# Altium footprint library Diode.PcbLib: 46 footprints (part 1 of 3)
Each footprint in its own frame and in the unit in brackets; x right, y up, seen from the top. Pads: shape width x height; smd on the part's side, far side on the other; paste and mask are expansions set on the pad; w line width, h text height; cw(c..) or ccw(c..) is an arc to the next point about the centre after c.
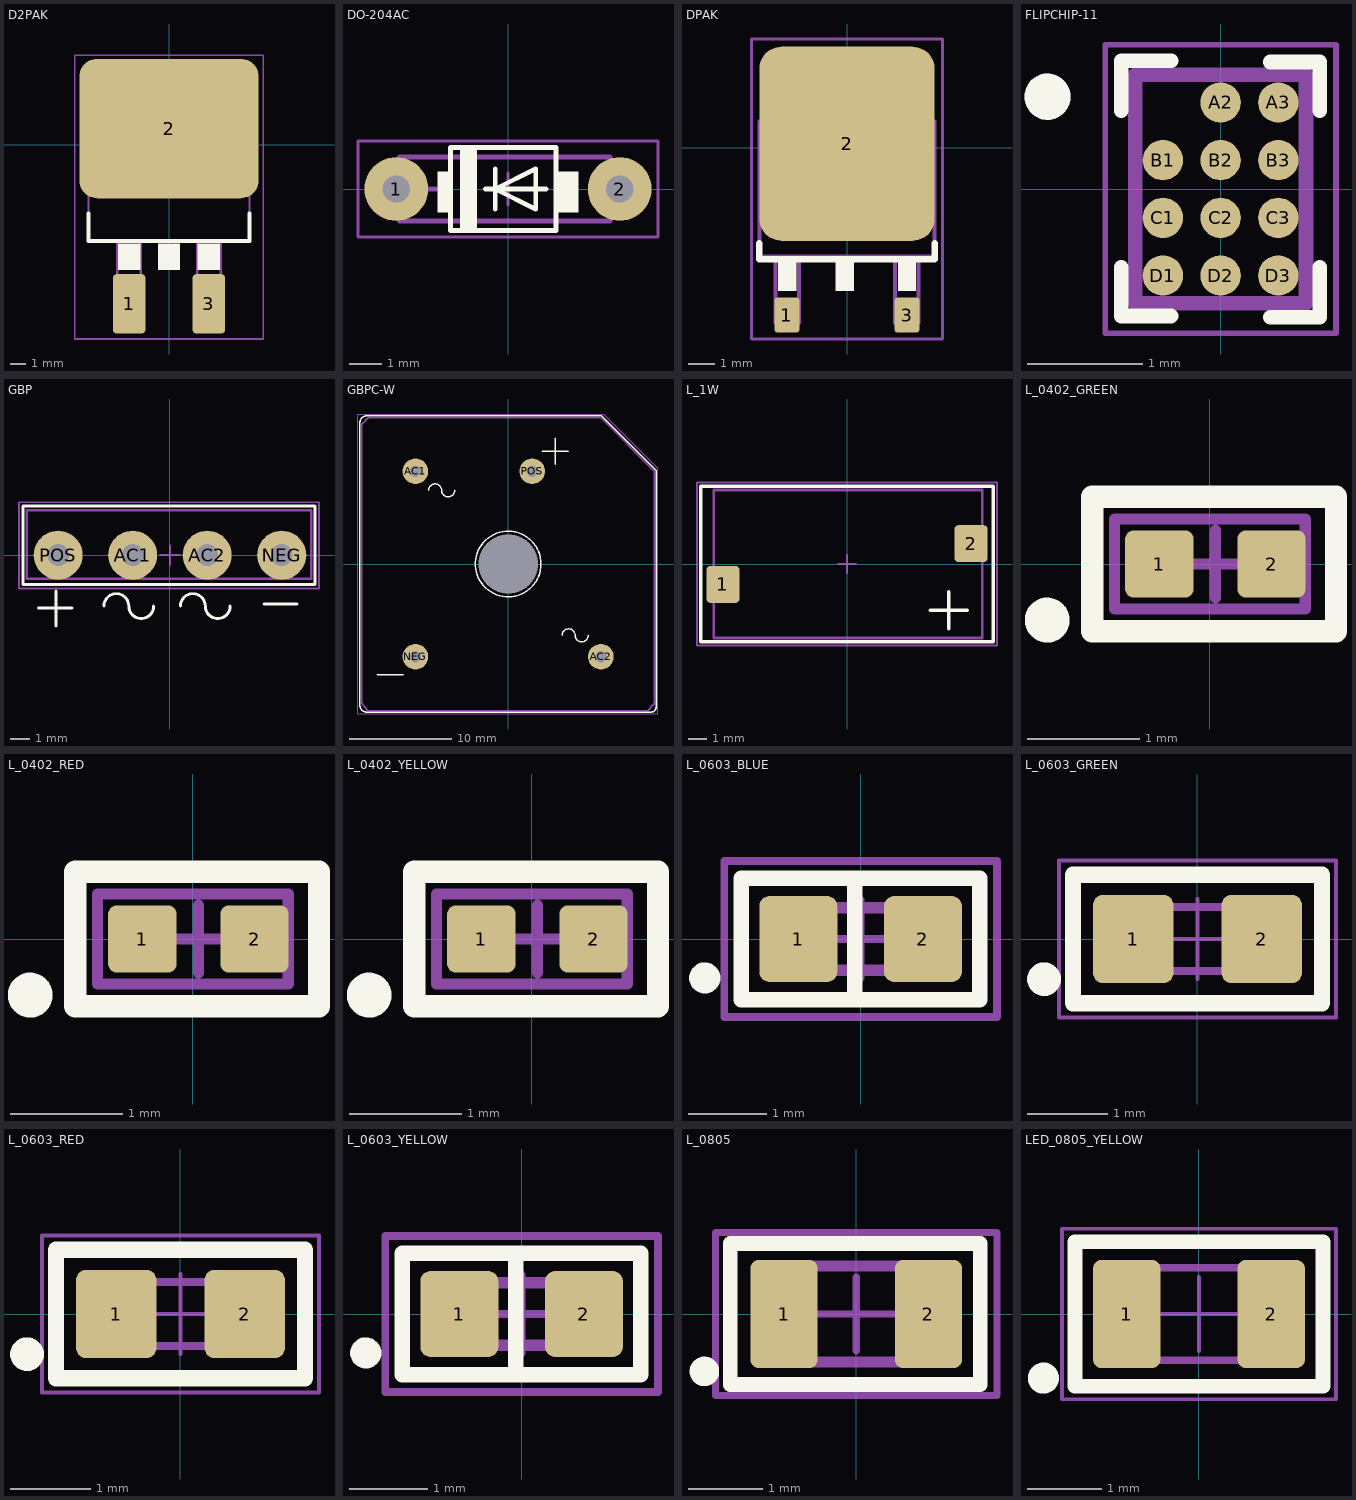
[diagram p0: the footprints below, top view; thin cyan lines are the x and y axes]

## D2PAK [mm]
pads (3):
  rrect25% 2.08x3.81 smd: 1(-2.54,-10.16) 3(2.54,-10.16)
  rrect25% 11.43x8.89 smd: 2(0,1.02)
Top Overlay:
  rectangle: -0.711,-8 0.711,-6.312
  rectangle: 1.829,-8 3.251,-6.312
  rectangle: -3.251,-8 -1.829,-6.312
  lines w0.254: -5.131,-4.381 -5.131,-6.159 5.131,-6.159 5.131,-4.381
Mechanical 7:
  lines w0.15: -5.131,-6.159 -5.131,3.175 ; -5.1,-6.159 5.1,-6.159 ; -3.3,-6.159 -3.3,-11.2 -1.8,-11.2 -1.8,-6.159 ; 1.8,-6.159 1.8,-11.2 3.3,-11.2 3.3,-6.159 ; 5.131,-6.159 5.131,3.175 ; -5.131,3.175 -5.131,3.429 -3.378,4.547 3.124,4.547 5.131,3.175 ; -5.131,3.175 5.131,3.175
Mechanical 9:
  text ".Designator" at -5,6.5 h3
Mechanical 10:
  text ".Comment" at -3.099,-14.1 h2
Mechanical 15:
  lines w0.1: -0.75,0 0.75,0 ; 0,-0.75 0,0.75 ; -6,-12.4 -6,5.7 6,5.7 6,-12.4 -6,-12.4
3D body "User Library-DPAK.step": height 5.03, standoff 0.02, extent -5.16,-11.25 5,4.014

## DO-204AC [mm]
pads (2):
  round 2 hole 0.85: 1(-3.5,0) 2(3.5,0)
Top Overlay:
  region: 1.5,0.535 2.2,0.535 2.2,-0.735 1.5,-0.735
  region: -1.5,1.3 -0.986,1.3 -0.986,-1.3 -1.5,-1.3
  region: -1.8,0.535 -2.2,0.535 -2.2,-0.735 -1.8,-0.735
  lines w0.152: -0.7,0 -0.4,0 ; -0.4,-0.635 -0.4,0 ; -0.4,0.635 -0.4,0 ; 1.2,0 -0.4,0 ; -0.4,0 0.87,-0.635 0.87,0.635 -0.4,0 ; -1.8,-1.3 1.5,-1.3 1.5,1.3 -1.8,1.3 -1.8,-1.3
Mechanical 9:
  text ".Designator" at -5.9,2.3 h3.5
Mechanical 10:
  text ".Comment" at -3.1,-2.9 h2
Mechanical 11:
  lines w0.15: -4.25,0 -2.25,0 ; -3.5,0 -3.25,0 ; -3.25,-1 -3.25,1 ; 3.2,0 4.3,0 ; -3.4,-1 3.2,-1 3.2,1 -3.4,1 -3.4,-1
Mechanical 15:
  lines w0.1: -0.5,0 0.5,0 ; 0,-0.5 0,0.5 ; -4.7,-1.5 -4.7,1.5 4.7,1.5 4.7,-1.5 -4.7,-1.5
3D body "User Library-diode6mm.STEP": height 4.86, standoff -0.14, extent -3.65,-1 3.65,1

## DPAK [mil]
pads (3):
  rrect25% 37x52 smd: 1(-89,-248) 3(89,-248)
  rrect25% 260x288 smd: 2(0,6)
Top Overlay:
  rectangle: -102.36,-212.6 -74.8,-165.35
  rectangle: 75.64,-212.6 102.36,-165.35
  rectangle: -17.3,-212.6 10.26,-165.35
  lines w10: -130,-141.94 -130,-165.35 130,-165.35 130,-141.94
Mechanical 7:
  lines w5.91: -106.3,39.37 -106.3,59.06 -74.8,90.55 74.8,90.55 106.3,59.06 106.3,39.37 -129.92,39.37 ; -129.92,39.37 -129.92,39.37 ; 129.92,39.37 129.92,39.37
  lines w6: -130,-138 -130,39.37 ; 130,-138 130,39.37 ; -130,39.37 130,39.37 ; -130,39.37 -130,-161.42 130,-161.42 130,39.37 ; -106,-260 -106,-161.42 ; -106,-260 -71,-260 ; -106,-260 -106,-161.42 ; -106,-260 -71,-260 ; -106,-161.42 -71,-161.42 ; -71,-260 -71,-161.42 ; -71,-260 -71,-161.42 ; 71,-260 70.87,-165.35 71,-260 ; 71,-260 106,-260 ; 71,-260 106,-260 ; 106,-260 106.27,-161.42 106,-260
Mechanical 9:
  text ".Designator" at -173.23,196.85 h118.11
Mechanical 10:
  text ".Comment" at -125.98,-346.46 h78.74
Mechanical 15:
  lines w3.94: -29.53,0 29.53,0 ; 0,-29.53 0,29.53 ; -141.73,-283.46 141.73,-283.46 141.73,161.42 -141.73,161.42 -141.73,-283.46
3D body: height 10, standoff 0, extent -192.91,11.81 -192.91,11.81
3D body "User Library-D-PAK.step": height 90.55, standoff 0, extent -127.81,-265.74 127.83,108.27

## FLIPCHIP-11 [mm]
pads (11):
  round 0.35 smd: A2(0,0.75) A3(0.5,0.75) B1(-0.5,0.25) B2(0,0.25) B3(0.5,0.25) C1(-0.5,-0.25) C2(0,-0.25) C3(0.5,-0.25) D1(-0.5,-0.75) D2(0,-0.75) D3(0.5,-0.75)
Top Overlay:
  circle w0.2: c-1.5,0.8 r0.1
  lines w0.127: -0.86,-0.68 -0.86,-1.1 -0.43,-1.1 ; -0.86,0.68 -0.86,1.11 -0.43,1.11 ; 0.43,-1.11 0.86,-1.11 0.86,-0.68 ; 0.43,1.1 0.86,1.1 0.86,0.68
Mechanical 4:
  circle w0.2: c-1.5,0.8 r0.1
  circle w0.2: c-1.5,0.8 r0.1
  lines w0.127: -0.74,-0.99 -0.74,0.99 ; -0.74,-0.99 0.74,-0.99 ; -0.74,-0.99 -0.74,0.99 ; -0.74,-0.99 0.74,-0.99 ; -0.74,0.99 0.74,0.99 ; -0.74,0.99 0.74,0.99 ; 0.74,-0.99 0.74,0.99 ; 0.74,-0.99 0.74,0.99
Mechanical 15:
  lines w0.05: -1,-1.25 -1,1.25 1,1.25 1,-1.25 -1,-1.25

## GBP [mm] "Glass Passivated Bridge Rectifiers"
height 1.1
pads (4):
  round 2.5 hole 1.118: AC1(-1.9,0) AC2(1.9,0) NEG(5.7,0) POS(-5.7,0)
Top Overlay:
  lines w0.152: -6.7,-2.7 -5,-2.7 ; -5.82,-3.6 -5.82,-1.83 ; -3.37,-2.6 cw(c-2.735,-2.6) -2.1,-2.6 ccw(c-1.465,-2.6) -0.83,-2.6 ; 0.53,-2.6 cw(c1.165,-2.6) 1.8,-2.6 ccw(c2.435,-2.6) 3.07,-2.6 ; 4.8,-2.5 6.49,-2.5 ; -7.5,-1.5 -7.5,2.5 7.4,2.5 7.4,-1.5 -7.5,-1.5
Mechanical 7:
  lines w0.127: -7.3,-1.2 7.2,-1.2 7.2,2.3 -7.3,2.3 -7.3,-1.2
Mechanical 9:
  text ".Designator" at -5.9,3.4 h3.5
Mechanical 10:
  text ".Comment" at -3.37,-5 h2
Mechanical 15:
  lines w0.1: -0.5,0 0.5,0 ; 0,-0.5 0,0.5 ; -7.7,-1.7 -7.7,2.7 7.6,2.7 7.6,-1.7 -7.7,-1.7
3D body "Деталь1.STEP": height 12.75, standoff -12.24, extent -7.25,-1.2 7.25,2.3

## GBPC-W [mm]
height 1.1
pads (5):
  round 2.5 hole 1.118: AC1(-9.05,9.05) AC2(9.05,-9.05) NEG(-9.05,-9.05) POS(2.35,9.05)
  round 2.5 hole 5.79 unplated: ""(0,0)
Top Overlay:
  circle w0.152: c0,0 r3.2
  lines w0.152: -12.79,-10.79 -10.25,-10.79 ; -7.76,7.18 cw(c-7.125,7.18) -6.49,7.18 ccw(c-5.855,7.18) -5.22,7.18 ; 3.31,11 5.85,11 ; 4.58,9.73 4.58,12.27 ; 5.27,-6.965 cw(c5.905,-6.965) 6.54,-6.965 ccw(c7.175,-6.965) 7.81,-6.965 ; -14.46,-13.815 ccw(c-13.825,-13.815) -13.825,-14.45 13.952,-14.45 ccw(c13.952,-13.967) 14.435,-13.967 14.435,9.157 9.342,14.25 9.14,14.452 -13.825,14.452 ccw(c-13.825,13.817) -14.46,13.817 -14.46,-13.815
Mechanical 9:
  text ".Designator" at -5.9,15.5 h3.5
Mechanical 10:
  text ".Comment" at -3.6,-16.4 h2
Mechanical 11:
  lines w0.127: 9.025,14.255 9,14.28 -13.645,14.28 -14.28,13.645 -14.28,-13.6 -13.7,-14.3 13.62,-14.3 ; 9.075,14.255 14.165,9.165 14.275,9.055 ; 13.62,-14.305 14.28,-13.645 14.28,9.055
Mechanical 15:
  lines w0.1: -0.5,0 0.5,0 ; 0,-0.5 0,0.5 ; -14.65,-14.625 -14.65,14.625 9.327,14.625 14.625,9.327 14.625,-14.625 -14.65,-14.625
3D body "GBPC-W.STEP": height 8.61, standoff -22.93, extent -14,-14.2 14.55,14.35

## L_1W [mm] "TDS-P001L4U16"
height 1.4
pads (2):
  rrect25% 1.8x2 smd: 1(-6.7,-1.1) 2(6.7,1.1)
Top Overlay:
  lines w0.2: 4.5,-2.5 6.5,-2.5 ; 5.5,-3.5 5.5,-1.5 ; -7.9,-4.2 -7.9,4.2 7.9,4.2 7.9,-4.2 -7.9,-4.2
Mechanical 9:
  text ".Designator" at -6,5.2 h3.5
Mechanical 10:
  text ".Comment" at -3.3,-5.8 h2
Mechanical 11:
  lines w0.15: -7.2,-4 -7.2,4 7.3,4 7.3,-4 -7.2,-4
Mechanical 15:
  lines w0.1: -0.5,0 0.5,0 ; 0,-0.5 0,0.5 ; -8.1,-4.4 -8.1,4.4 8.1,4.4 8.1,-4.4 -8.1,-4.4
3D body "User Library-Power LED2.step": height 5.55, standoff 0, extent -7.25,-4 7.25,4

## L_0402_GREEN [mm] "SMD LED LAMP"
height 1.4
pads (2):
  rrect25% 0.61x0.6 smd: 1(-0.45,0) 2(0.55,0)
Top Overlay:
  circle w0.2: c-1.45,-0.5 r0.1
  lines w0.2: -1.05,-0.6 -1.05,0.6 1.125,0.6 1.125,-0.6 -1.05,-0.6
Mechanical 9:
  text ".Designator" at -4.6,1.6 h3
Mechanical 10:
  text ".Comment" at -3,-2.75 h2
Mechanical 11:
  lines w0.1: -0.85,-0.4 -0.85,0.4 0.85,0.4 0.85,-0.4 -0.85,-0.4
Mechanical 15:
  lines w0.05: -1.05,-0.6 1.125,-0.6 1.125,0.6 -1.05,0.6 -1.05,-0.6
  lines w0.1: -0.25,0 0.35,0 ; 0.05,-0.3 0.05,0.3
3D body "User Library-LED_1006_G.STEP": height 0.2, standoff 0, extent -0.5,-0.3 0.5,0.3

## L_0402_RED [mm] "SMD LED LAMP"
height 1.4
pads (2):
  rrect25% 0.61x0.6 smd: 1(-0.45,0) 2(0.55,0)
Top Overlay:
  circle w0.2: c-1.45,-0.5 r0.1
  lines w0.2: -1.05,-0.6 -1.05,0.6 1.125,0.6 1.125,-0.6 -1.05,-0.6
Mechanical 9:
  text ".Designator" at -4.6,1.6 h3
Mechanical 10:
  text ".Comment" at -3,-2.75 h2
Mechanical 11:
  lines w0.1: -0.85,-0.4 -0.85,0.4 0.85,0.4 0.85,-0.4 -0.85,-0.4
Mechanical 15:
  lines w0.05: -1.05,-0.6 1.125,-0.6 1.125,0.6 -1.05,0.6 -1.05,-0.6
  lines w0.1: -0.25,0 0.35,0 ; 0.05,-0.3 0.05,0.3
3D body "User Library-LED_1006_R.STEP": height 0.2, standoff 0, extent -0.5,-0.3 0.5,0.3

## L_0402_YELLOW [mm] "SMD LED LAMP"
height 1.4
pads (2):
  rrect25% 0.61x0.6 smd: 1(-0.45,0) 2(0.55,0)
Top Overlay:
  circle w0.2: c-1.45,-0.5 r0.1
  lines w0.2: -1.05,-0.6 -1.05,0.6 1.125,0.6 1.125,-0.6 -1.05,-0.6
Mechanical 9:
  text ".Designator" at -4.6,1.6 h3
Mechanical 10:
  text ".Comment" at -3,-2.75 h2
Mechanical 11:
  lines w0.1: -0.85,-0.4 -0.85,0.4 0.85,0.4 0.85,-0.4 -0.85,-0.4
Mechanical 15:
  lines w0.05: -1.05,-0.6 1.125,-0.6 1.125,0.6 -1.05,0.6 -1.05,-0.6
  lines w0.1: -0.25,0 0.35,0 ; 0.05,-0.3 0.05,0.3
3D body "User Library-LED_1006_Y.STEP": height 0.2, standoff 0, extent -0.5,-0.3 0.5,0.3

## L_0603_BLUE [mm]
height 1.1
pads (2):
  rrect25% 1x1.1 smd: 1(-0.8,0) 2(0.8,0)
Top Overlay:
  circle w0.2: c-2,-0.5 r0.1
  lines w0.2: -0.075,-0.78 -0.075,0.78 ; -1.53,-0.78 -1.53,0.78 1.53,0.78 1.53,-0.78 -1.53,-0.78
Mechanical 9:
  text ".Designator" at -4.75,1.75 h3.5
Mechanical 10:
  text ".Comment" at -3,-2.75 h2
Mechanical 11:
  lines w0.15: -0.7,-0.4 -0.7,0.4 ; -0.6,-0.4 -0.6,0.4 ; -0.5,-0.4 -0.5,0.4 ; -0.8,-0.4 0.8,-0.4 0.8,0.4 -0.8,0.4 -0.8,-0.4
Mechanical 15:
  lines w0.1: -0.5,0 0.5,0 ; 0,-0.5 0,0.5 ; -1.75,-1 1.75,-1 1.75,1 -1.75,1 -1.75,-1
3D body "User Library-LED0603_BLUE.STEP": height 0.9, standoff 0, extent -0.85,-0.45 0.85,0.45

## L_0603_GREEN [mm]
height 1.1
pads (2):
  rrect25% 1x1.1 smd: 1(-0.8,0) 2(0.8,0)
Top Overlay:
  circle w0.22: c-1.91,-0.5 r0.1
  lines w0.2: -1.55,-0.8 -1.55,0.8 1.55,0.8 1.55,-0.8 -1.55,-0.8
Mechanical 13:
  lines w0.1: -0.8,-0.4 0.8,-0.4 0.8,0.4 -0.8,0.4 -0.8,-0.4
Mechanical 15:
  lines w0.05: -0.5,0 0.5,0 ; 0,-0.5 0,0.5 ; -1.725,-0.975 1.725,-0.975 1.725,0.975 -1.725,0.975 -1.725,-0.975
3D body "User Library-LED_0603_G.STEP": height 0.6, standoff 0, extent -0.8,-0.4 0.8,0.4

## L_0603_RED [mm] "1.60mm L x 0.80mm W"
height 0.65
pads (2):
  rrect25% 1x1.1 smd: 1(-0.8,0) 2(0.8,0)
Top Overlay:
  circle w0.22: c-1.91,-0.5 r0.1
  lines w0.2: -1.55,-0.8 1.55,-0.8 1.55,0.8 -1.55,0.8 -1.55,-0.8
Mechanical 13:
  lines w0.1: -0.8,-0.4 -0.8,0.4 0.8,0.4 0.8,-0.4 -0.8,-0.4
Mechanical 15:
  lines w0.05: -0.5,0 0.5,0 ; 0,-0.5 0,0.5 ; -1.725,-0.975 -1.725,0.975 1.725,0.975 1.725,-0.975 -1.725,-0.975
3D body "User Library-LED_0603_R.STEP": height 0.6, standoff 0, extent -0.8,-0.4 0.8,0.4

## L_0603_YELLOW [mm]
height 1.1
pads (2):
  rrect25% 1x1.1 smd: 1(-0.8,0) 2(0.8,0)
Top Overlay:
  circle w0.2: c-2,-0.5 r0.1
  lines w0.2: -0.075,-0.78 -0.075,0.78 ; -1.53,-0.78 -1.53,0.78 1.53,0.78 1.53,-0.78 -1.53,-0.78
Mechanical 9:
  text ".Designator" at -4.75,1.75 h3.5
Mechanical 10:
  text ".Comment" at -3,-2.75 h2
Mechanical 11:
  lines w0.15: -0.7,-0.4 -0.7,0.4 ; -0.6,-0.4 -0.6,0.4 ; -0.5,-0.4 -0.5,0.4 ; -0.8,-0.4 0.8,-0.4 0.8,0.4 -0.8,0.4 -0.8,-0.4
Mechanical 15:
  lines w0.1: -0.5,0 0.5,0 ; 0,-0.5 0,0.5 ; -1.75,-1 1.75,-1 1.75,1 -1.75,1 -1.75,-1
3D body "User Library-LED_0603_Y.STEP": height 0.6, standoff 0, extent -0.8,-0.4 0.8,0.4

## L_0805 [mm] "SMD LED LAMP"
height 1.4
pads (2):
  rrect25% 0.91x1.46 smd: 1(-0.975,0) 2(0.975,0)
Top Overlay:
  circle w0.2: c-2.05,-0.775 r0.1
  lines w0.2: -1.7,-0.95 1.675,-0.95 1.675,0.95 -1.7,0.95 -1.7,-0.95
Mechanical 9:
  text ".Designator" at -4.75,1.75 h3.5
Mechanical 10:
  text ".Comment" at -3,-2.75 h2
Mechanical 11:
  lines w0.15: -1.05,-0.65 1.05,-0.65 1.05,0.65 -1.05,0.65 -1.05,-0.65
Mechanical 15:
  lines w0.1: -0.5,0 0.5,0 ; 0,-0.5 0,0.5 ; -1.9,-1.1 1.9,-1.1 1.9,1.1 -1.9,1.1 -1.9,-1.1
3D body "Led_Red_0805.STEP": height 1.1, standoff 0, extent -1.01,-0.625 1.01,0.625

## LED_0805_YELLOW [mm] "2.00mm L x 1.25mm W"
height 1.1
pads (2):
  rrect25% 0.91x1.46 smd: 1(-0.975,0) 2(0.975,0)
Top Overlay:
  circle w0.22: c-2.1,-0.865 r0.1
  lines w0.2: -1.675,-0.975 1.675,-0.975 1.675,0.975 -1.675,0.975 -1.675,-0.975
Mechanical 13:
  lines w0.1: -1,-0.625 1,-0.625 1,0.625 -1,0.625 -1,-0.625
Mechanical 15:
  lines w0.05: -0.5,0 0.5,0 ; 0,-0.5 0,0.5 ; -1.85,-1.15 1.85,-1.15 1.85,1.15 -1.85,1.15 -1.85,-1.15
3D body "LTST-C171KSKT.STEP": height 1.1, standoff 0, extent -1,-0.625 1,0.625